# Altium schematic symbol library Ultimate Sensor Fusion Solution.SchLib: 1 symbol
Pins are listed as number, name and electrical type; pins without a type are passive.

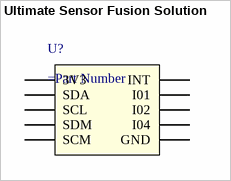
[diagram p0: symbol Ultimate Sensor Fusion Solution]

## Ultimate Sensor Fusion Solution
designator U?
pins: 1 GND, 2 3V3, 3 I02, 4 SCL, 5 SDA, 6 INT, 7 I04, 8 I01, 9 SCM, 10 SDM